# Altium schematic symbol library Capacitors.SchLib: 3 symbols
Pins are listed as number, name and electrical type; pins without a type are passive.

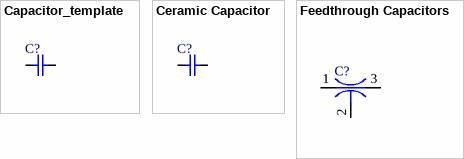
[diagram p0: symbols Capacitor_template to Feedthrough Capacitors]

## Capacitor_template
designator C?
# of Pins: 2; Mfr Part #: *; Case/Package: *; Manufacturer: *; Supplier 1: Digikey; Supplier 1 Part #: *; Supplier 2: Mouser; Supplier 2 Part #: *; Supplier 3: *; Supplier 3 Part #: *
footprint R0603 (0603 SMD Resistor)
footprint R0805 (0805 SMD Resistor)
footprint C1206 (1206 SMD Capacitor)
pins: 1, 2

## Ceramic Capacitor
designator C?
# of Pins: 2; Mfr Part #: *; Case/Package: *; Manufacturer: *; Supplier 1: Digikey; Supplier 1 Part #: *; Supplier 2: Mouser; Supplier 2 Part #: *; Supplier 3: *; Supplier 3 Part #: *
footprint C1206 (1206 SMD Capacitor)
footprint C0603 (0603 SMD Capacitor)
footprint C0805 (0805 SMD Capacitor)
pins: 1, 2

## Feedthrough Capacitors
designator C?
# of Pins: 3; Part #: *; Case/Package: *; Manufacturer: *; Supplier 1: Digikey; Supplier 1 Part #: *; Supplier 2: Mouser; Supplier 2 Part #: *; Supplier 3: *; Supplier 3 Part #: *
footprint C0805_feedthrough_murata
pins: 1 IN (power), 2 GND (power), 3 OUT (power)